# Altium schematic symbol library CDH_COMPONENTS_SYMBOLS.SchLib: 19 symbols
Pins are listed as number, name and electrical type; pins without a type are passive.

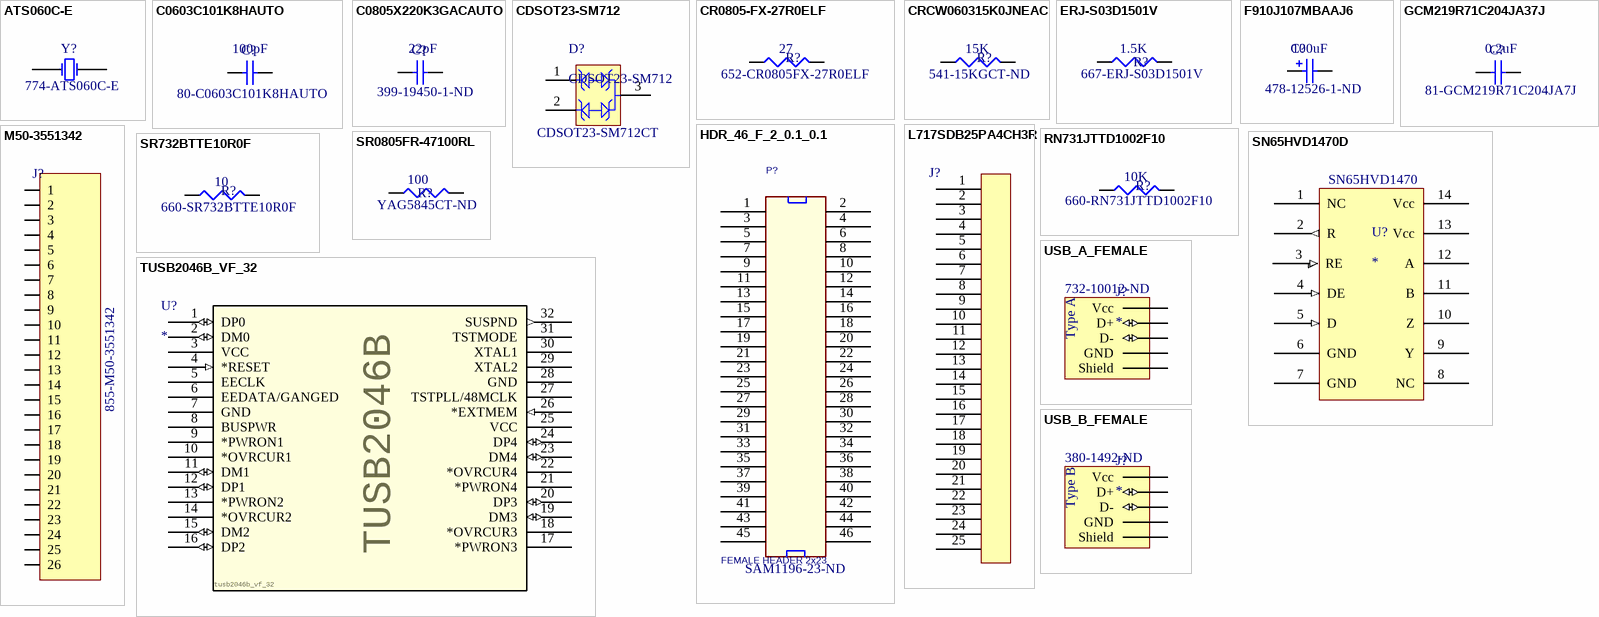
[diagram p0: symbols ATS060C-E to USB_B_FEMALE]

## ATS060C-E
designator Y?  Supplier Part Number 1: 774-ATS060C-E
6MHz Crystal Oscillator for TUSB IC.; Published: 8-Jun-2000; LatestRevisionDate: 17-Jul-2002; LatestRevisionNote: Re-released for DXP Platform.; PackageReference: R38; Publisher: Altium Limited; PackageDescription: Crystal, Thru-Hole; 2 Leads; Body 3.1 x 8.2 mm (Dia.xH); Supplier 1: Mouser
footprint HC-49/US T/H Crystal
simulation model XTAL (Spice Subcircuit)
pins: 1 OSC1, 2 OSC2

## C0603C101K8HAUTO
designator C?  value 100pF  Supplier Part Number 1: 80-C0603C101K8HAUTO
100pF Cap for IC Vcc Smoothing; Published: 8-Jun-2000; LatestRevisionDate: 29-May-2009; LatestRevisionNote: IPC-7351 Footprint Added.; PackageReference: C1206; Publisher: Altium Limited; PackageDescription: Chip Capacitor; Supplier 1: Mouser
simulation model CAP (Semiconductor Capacitor)
signal-integrity model Cap Semi
footprint R_Imperial0603 (Imperial 0603 resistor footprint)
pins: 1, 2

## C0805X220K3GACAUTO
designator C?  value 22pF  Supplier Part Number 1: 399-19450-1-ND
22pF USB Filter Capacitor; Published: 8-Jun-2000; LatestRevisionDate: 29-May-2009; LatestRevisionNote: IPC-7351 Footprint Added.; PackageReference: C1206; Publisher: Altium Limited; PackageDescription: Chip Capacitor; Supplier 1: Digi-Key
simulation model CAP (Semiconductor Capacitor)
signal-integrity model Cap Semi
footprint Cap_EIA0805 (Chip Capacitor, 2-Leads, Body 2.00x1.23mm, IPC Medium Density)
pins: 1, 2

## CDSOT23-SM712
designator D?  Other Names: CDSOT23-SM712CT
Surface Mount TVS Diode, 17 A Ipp, -55 to 150 degC, 3-Pin SOT23, RoHS, Tape and Reel; Manufacturer: Bourns; Catalog Drawings: CDSOT23-SM712Schematic; Current - Peak Pulse (10/1000µs): 17A(8/20µs); Voltage - Breakdown (Min): 7.5V,13.3V; Online Catalog: CDSOT23Series; Power Line Protection: No; Bidirectional Channels: 2; Type: Zener; For Use With: EVAL-CN0313-SDPZ-ND-EVALEMCRS-485CERTIFIED; Kits: PN-DESIGNKIT-22-ND-KITESD/EFTSURGEPROTECTION; Capacitance @ Frequency: 75pF@1MHz; Product Training Modules: ESDProtectionProducts; Voltage - Clamping (Max) @ Ipp: 14V,26V; Voltage - Reverse Standoff (Typ): 7V(Max),12V(Max); Related Products: ADM3485EARZ-REEL7TR-ND-ICTXRXRS-485HS3.3V8SOICADM3485EARZ-REEL7CT-ND-ICTXRXRS-485HS3.3V8SOICADM3485EARZ-REEL7DKR-ND-ICTXRXRS-485HS3.3V8SOICADM3485EARZ-ND-ICTX/RXRS-485HS3.3V8-SOICADM3485EAR-ND-ICTX/RXRS-485HS3.3V8-SOIC296-38503-5-ND-ICTXRXRS4853.3VESD14SOIC296-38501-5-ND-ICRS485TXRX3.3ESD8SOIC296-38522-5-ND-ICTXRXRS4853.3V14SOIC296-38502-5-ND-ICTXRXRS4853.3VESD14SOICADM3485EARZ-REELTR-ND-ICTXRXRS-4853.3V8SOICADM3485EARZ-REELCT-ND-ICTXRXRS-4853.3V8SOICADM3485EARZ-REELDKR-ND-ICTXRXRS-4853.3V8SOIC296-40517-2-ND-ICTXRXRS4853.3V14SOIC296-40517-1-ND-ICTXRXRS4853.3V14SOIC296-40517-6-ND-ICTXRXRS4853.3V14SOIC296-40519-2-ND-ICRS485TXRX3.3ESD8SOIC296-40519-1-ND-ICRS485TXRX3.3ESD8SOIC296-40519-6-ND-ICRS485TXRX3.3ESD8SOIC296-40524-2-ND-ICTXRXRS4853.3VESD8SOIC296-40524-1-ND-ICTXRXRS4853.3VESD8SOIC296-40524-6-ND-ICTXRXRS4853.3VESD8SOIC296-40522-2-ND-ICTXRXRS4853.3VESD14SOIC296-40522-1-ND-ICTXRXRS4853.3VESD14SOIC296-40522-6-ND-ICTXRXRS4853.3VESD14SOIC296-40529-2-ND-ICRS485TXRX3.3ESD8SOIC296-40529-1-ND-ICRS485TXRX3.3ESD8SOIC2; Power - Peak Pulse: 400W; Applications: GeneralPurpose; Supplier Device Package: SOT-23-3; Package / Case: TO-236-3,SC-59,SOT-23-3; Mounting Type: SurfaceMount; Datasheet URL: https://datasheet.ciiva.com/11193/cdsot23-sm712-11193846.pdf; Standard Package: 1; Series: -; Category: CircuitProtection; Unidirectional Channels: -; Package Description: 3-Lead Small Out-Line Transistor, Body 2.9x1.3mm, Pitch 0.95mm; Family: TVS-Diodes; Datasheet Version: Aug-12; Manufacturer URL: http://www.bourns.com/; Operating Temperature: -55degC~150degC(TJ); Packaging: CutTape(CT)
footprint BOUR-SOT23-3_V (SOT23, 3-Leads, Body 2.9x1.3mm, Pitch 0.95mm)
pins: 1, 2, 3

## CR0805-FX-27R0ELF
designator R?  value 27  Supplier Part Number 1: 652-CR0805FX-27R0ELF
USB Terminating Resistor, 27Ohm; Published: 8-Jun-2000; LatestRevisionDate: 29-May-2009; LatestRevisionNote: IPC-7351 Footprint Added.; PackageReference: J1-0603; Publisher: Altium Limited; PackageDescription: Chip Resistor; Supplier 1: Mouser
simulation model RESISTOR (Resistor)
signal-integrity model Res
footprint RESC2012X06N (Chip Resistor, 2-Leads, Body 2.00x1.25mm, IPC Medium Density)
pins: 1, 2

## CRCW060315K0JNEAC
designator R?  value 15K  Supplier Part Number 1: 541-15KGCT-ND
USB Pulldown Resistor, 15KOhm; Published: 8-Jun-2000; LatestRevisionDate: 29-May-2009; LatestRevisionNote: IPC-7351 Footprint Added.; PackageReference: J1-0603; Publisher: Altium Limited; PackageDescription: Chip Resistor; Supplier 1: Digi-Key
simulation model RESISTOR (Resistor)
signal-integrity model Res
footprint RESC2012X06N (Chip Resistor, 2-Leads, Body 2.00x1.25mm, IPC Medium Density)
footprint R_Imperial0603 (Imperial 0603 resistor footprint)
pins: 1, 2

## ERJ-S03D1501V
designator R?  value 1.5K  Supplier Part Number 1: 667-ERJ-S03D1501V
USB Pullup Resistor, 1.5KOhm; Published: 8-Jun-2000; LatestRevisionDate: 29-May-2009; LatestRevisionNote: IPC-7351 Footprint Added.; PackageReference: J1-0603; Publisher: Altium Limited; PackageDescription: Chip Resistor; Supplier 1: Mouser
simulation model RESISTOR (Resistor)
signal-integrity model Res
footprint RESC2012X06N (Chip Resistor, 2-Leads, Body 2.00x1.25mm, IPC Medium Density)
footprint R_Imperial0603 (Imperial 0603 resistor footprint)
pins: 1, 2

## F910J107MBAAJ6
designator C?  value 100uF  Supplier Part Number 1: 478-12526-1-ND
100uF, USB Power smoothing capacitor, tantalium, low ESR; Published: 8-Jun-2000; LatestRevisionDate: 29-May-2009; LatestRevisionNote: IPC-7351 Footprint Added.; PackageReference: C0805; Publisher: Altium Limited; PackageDescription: Chip Capacitor; Supplier 1: Digi-Key
simulation model CAP (Capacitor)
signal-integrity model Cap Pol
footprint POLAR_CAP_SMD_EIA2010 (Polarized SMT capacitor, Imperial 2010 footprint)
pins: 1, 2
1 alternate drawing of the same symbol

## GCM219R71C204JA37J
designator C?  value 0.2uF  Supplier Part Number 1: 81-GCM219R71C204JA7J
0.2uF Decoupling Capacitor; Published: 8-Jun-2000; LatestRevisionDate: 29-May-2009; LatestRevisionNote: IPC-7351 Footprint Added.; PackageReference: C1206; Publisher: Altium Limited; PackageDescription: Chip Capacitor; Supplier 1: Mouser
simulation model CAP (Semiconductor Capacitor)
signal-integrity model Cap Semi
footprint Cap_EIA0805 (Chip Capacitor, 2-Leads, Body 2.00x1.23mm, IPC Medium Density)
pins: 1, 2

## HDR_46_F_2_0.1_0.1
designator P?, comment FEMALE HEADER 2x23  Supplier Part Number 1: SAM1196-23-ND
2x23 Female Pin header, 2.54mm, gold plated; Manufacturer: Sullins Connector Solutions; Manufacturer Part Number: PPPC232LFBN-RC; Number of Positions: 46; Number of Positions Loaded: All; Pitch: 0.100" (2.54mm); RoHS: RoHS Compliant; Category: Connectors, Interconnects; Stock 1: 750; Pricing 1: 1=2.75, 10=2.325, 25=2.2196, 50=2.0084, 100=1.7969, 250=1.58552, 500=1.4798, 1000=1.3741, 2500=1.32125 (USD); Connector Type: Header; Contact Type: Female Socket; Number of Rows: 2; Row Spacing: 0.100" (2.54mm); Mounting Type: Through Hole; Termination: Solder; Fastening Type: -; Features: -; Contact Finish: Gold; Contact Finish Thickness: Flash; Color: Black; Packaging: Bulk; ComponentLink1URL: http://www.sullinscorp.com/drawings/78_P(N)PxCxxxLFBN-RC,_10492-G.pdf; ComponentLink1Description: http://www.sullinscorp.com/drawings/78_P(N)PxCxxxLFBN-RC,_10492-G.pdf; Supplier 1: Digi-Key
footprint HEADER23X2
footprint MAJOR-TSHC-123-D-03_V (CONN, 46-Leads, Body 58.42x5mm, Pitch 2.54mm)
pins: 1, 2 26, 3 2, 4 27, 5 3, 6 28, 7 4, 8 29, 9 5, 10 30, 11 6, 12 31, 13 7, 14 32, 15 8, 16 33, 17 9, 18 34, 19 10, 20 35, 21 11, 22 36, 23 12, 24 37, 25 13, 26 38, 27 14, 28 39, 29 15, 30 40, 31 16, 32 41, 33 17, 34 42, 35 18, 36 43, 37 19, 38 44, 39 20, 40 45, 41 21, 42 46, 43 22, 44 47, 45 23, 46 48

## L717SDB25PA4CH3R
designator J?, comment DB-25 Socket for Rover connection  (value not drawn)
footprint DB-25_Standard_Density (Right angle DB-25 standard density connector)
pins: 1, 2, 3, 4, 5, 6, 7, 8, 9, 10, 11, 12, 13, 14, 15, 16, 17, 18, 19, 20, 21, 22, 23, 24, 25

## M50-3551342
designator J?  Supplier Part Number 1: 855-M50-3551342  (hidden comment: *)
26-pin ejector connector that will then connect to the DB-25 connector; Supplier 1: Mouser
footprint M50-3551342 (EJT 13x2 socket)
pins: 1, 2, 3, 4, 5, 6, 7, 8, 9, 10, 11, 12, 13, 14, 15, 16, 17, 18, 19, 20, 21, 22, 23, 24, 25, 26

## RN731JTTD1002F10
designator R?  value 10K  Supplier Part Number 1: 660-RN731JTTD1002F10
Thermister Pullup Resistor; Published: 8-Jun-2000; LatestRevisionDate: 29-May-2009; LatestRevisionNote: IPC-7351 Footprint Added.; PackageReference: J1-0603; Publisher: Altium Limited; PackageDescription: Chip Resistor; Supplier 1: Mouser
simulation model RESISTOR (Resistor)
signal-integrity model Res
footprint R_Imperial0603 (Imperial 0603 resistor footprint)
pins: 1, 2

## SN65HVD1470D
designator U?  Generic Part Number: SN65HVD1470
RS-422 line driver IC; Supplier 1: Digi-Key; Supplier Part Number 1: 296-40501-1-ND
footprint SOIC127P590X175-14M (SOIC, 14-Leads, Body 8.65x3.90mm, Pitch 1.27mm, IPC Low Density)
pins: 1 NC (hiz) "No Connection", 2 R (out) "Receive data Output", 3 RE (in) "Receive Enable Low", 4 DE (in) "Drive Enable High", 5 D (in) "Driver data input", 6 GND (power) "Reference Potential", 7 GND (power) "Reference Potential", 8 NC "No Connection", 9 Y "RS422 Tx+", 10 Z "RS422 Tx-", 11 B "RS422 Rx-", 12 A "RS422 Rx+", 13 Vcc "Supply", 14 Vcc (power) "Supply"

## SR732BTTE10R0F
designator R?  value 10  Supplier Part Number 1: 660-SR732BTTE10R0F
RS-422 shockproof resistor, 10 Ohm; Published: 8-Jun-2000; LatestRevisionDate: 29-May-2009; LatestRevisionNote: IPC-7351 Footprint Added.; PackageReference: J1-0603; Publisher: Altium Limited; PackageDescription: Chip Resistor; Supplier 1: Mouser
simulation model RESISTOR (Resistor)
signal-integrity model Res
footprint RESC3216X07N (Chip Resistor, 2-Leads, Body 3.20x1.60mm, IPC Medium Density)
pins: 1, 2

## SR0805FR-47100RL
designator R?  value 100  Supplier Part Number 1: YAG5845CT-ND
RS422 Terminating Resistor, 100 Ohm; Published: 8-Jun-2000; LatestRevisionDate: 29-May-2009; LatestRevisionNote: IPC-7351 Footprint Added.; PackageReference: J1-0603; Publisher: Altium Limited; PackageDescription: Chip Resistor; Supplier 1: Digi-Key
simulation model RESISTOR (Resistor)
signal-integrity model Res
footprint RESC2012X06N (Chip Resistor, 2-Leads, Body 2.00x1.25mm, IPC Medium Density)
pins: 1, 2

## TUSB2046B_VF_32
designator U?  Manufacturer_Part_Number: tusb2046b_vf_32  GENERIC_PART_NUMBER: TUSB2046B
USB 2.0 Hub IC; Vendor: Texas Instruments; PACKAGE_DESIGNATOR: VF; PIN_COUNT: 32; FAMILY_NAME: USB HUB CONTROLLER; INDUSTRY_STD_PKG_TYPE: LQFP; Manufacturer: Texas Instruments; Datasheet_URL: http://www.ti.com/lit/gpn/TUSB2046B; Value: Value; Type: Type; RefDes: RefDes; Supplier 1: Digi-Key; Supplier Part Number 1: 296-48218-1-ND
footprint VF32
footprint TQFP80P900X900X160-32N (TQFP, 32-Leads, Body 7.00x7.00mm, Pitch 0.80mm, IPC Medium Density)
pins: 1 DP0 (io), 2 DM0 (io), 3 VCC (power), 4 *RESET (in), 5 EECLK, 6 EEDATA/GANGED, 7 GND (power), 8 BUSPWR, 9 *PWRON1, 10 *OVRCUR1, 11 DM1 (io), 12 DP1 (io), 13 *PWRON2, 14 *OVRCUR2, 15 DM2 (io), 16 DP2 (io), 17 *PWRON3, 18 *OVRCUR3, 19 DM3 (io), 20 DP3 (io), 21 *PWRON4, 22 *OVRCUR4, 23 DM4 (io), 24 DP4 (io), 25 VCC (power), 26 *EXTMEM (in), 27 TSTPLL/48MCLK, 28 GND (power), 29 XTAL2, 30 XTAL1, 31 TSTMODE, 32 SUSPND (out)

## USB_A_FEMALE
designator J?  Supplier Part Number 1: 732-10012-ND  USB Type: Type A
USB Type A female connector.; Supplier 1: Digi-Key
footprint USB_A_FEMALE_SINGLE (A horizontally oriented, USB type A receptacle.)
pins: D+ (io), D- (io), GND, Shield, Vcc (power)

## USB_B_FEMALE
designator J?  Supplier Part Number 1: 380-1492-ND  USB Type: Type B
USB Type B female connector.; Supplier 1: Digi-Key
footprint USB_B_FEMALE_RT (USB Type B female receptacle, right angle)
pins: D+ (io), D- (io), GND, Shield, Vcc (power)